# Altium schematic symbol library Power_Management.SchLib: 280 symbols (part 1 of 3)
Pins are listed as number, name and electrical type; pins without a type are passive.

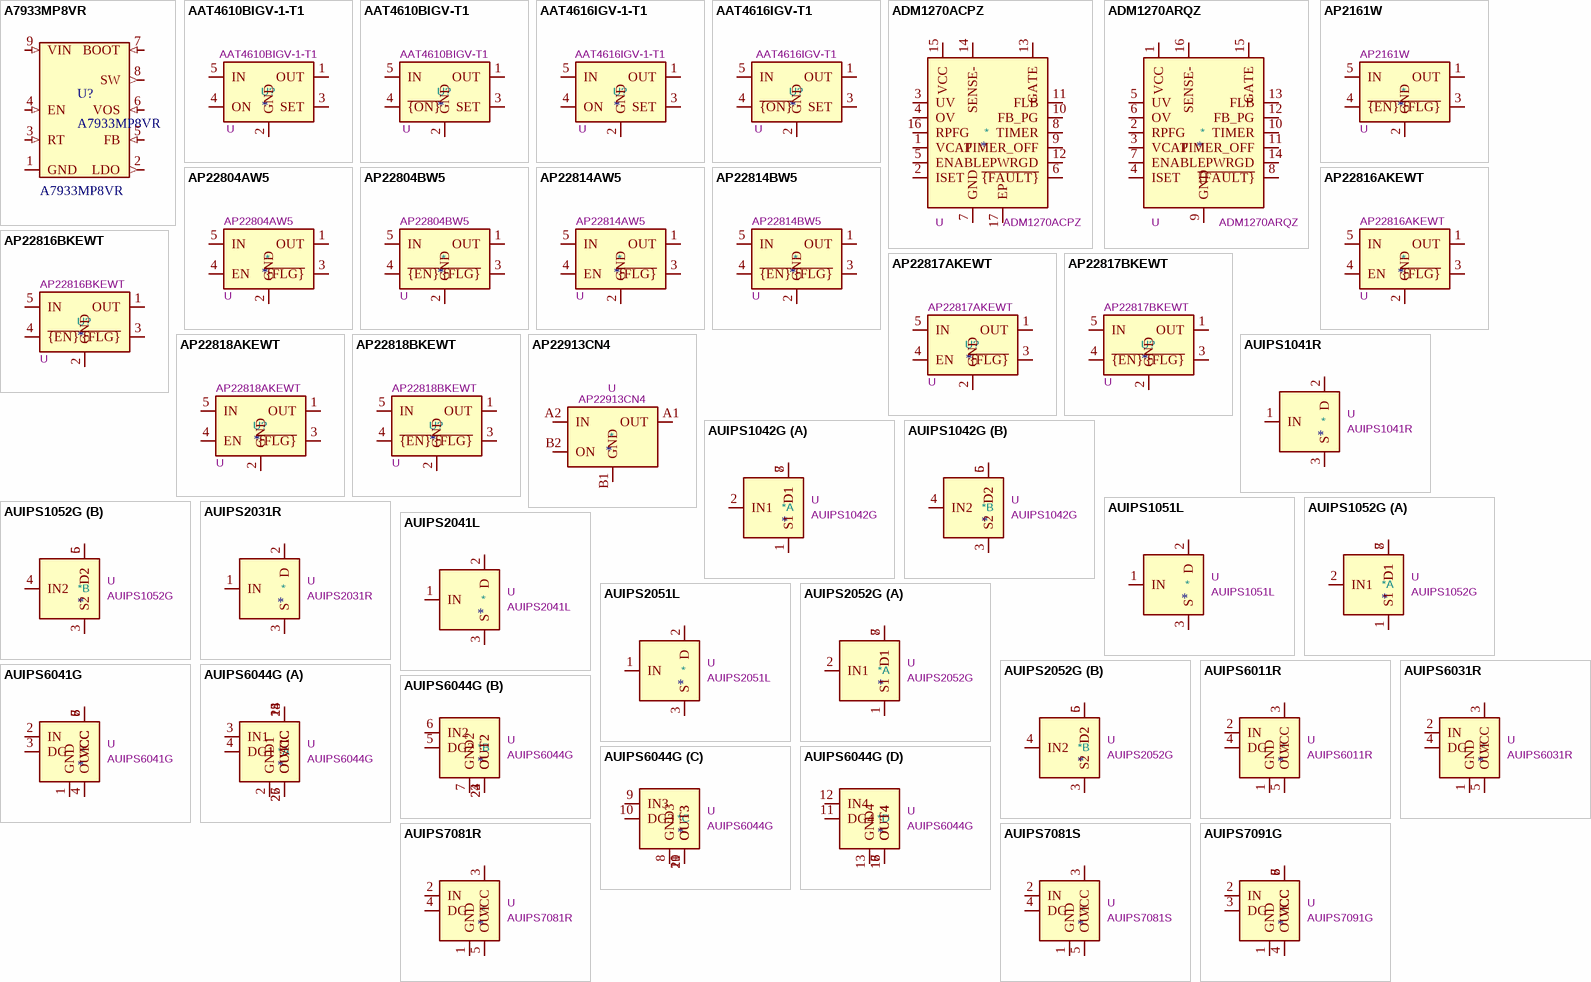
[diagram p0: symbols A7933MP8VR to AUIPS7091G]

## A7933MP8VR
designator U?
DC-DC CONVERTER BUCK (STEP-DOWN) / 6.0V to 90V, 3A, 500KHz; DNP: *; Value: A7933MP8VR
footprint SOIC-8-1EP_3.9x4.9mm_P1.27mm_EP2.62x3.51mm
pins: 1 GND (power), 2 LDO (out), 3 RT (in), 4 EN (in), 5 FB (in), 6 VOS (in), 7 BOOT (in), 8 SW (out), 9 VIN (in)

## AAT4610BIGV-1-T1
designator U?  value AAT4610BIGV-1-T1  Reference: U
Current Limited Load Switch, SOT-23-5; ki_keywords: Limit USB Active High; ki_fp_filters: SOT?23*; Footprint: Package_TO_SOT_SMD:SOT-23-5; Datasheet: http://www.skyworksinc.com/uploads/documents/201937A.pdf; Description_: Current Limited Load Switch, SOT-23-5
pins: 1 OUT, 2 GND, 3 SET, 4 ON, 5 IN

## AAT4610BIGV-T1
designator U?  value AAT4610BIGV-T1  Reference: U
Current Limited Load Switch, SOT-23-5; ki_keywords: Limit USB Active Low; ki_fp_filters: SOT?23*; Footprint: Package_TO_SOT_SMD:SOT-23-5; Datasheet: http://www.skyworksinc.com/uploads/documents/201937A.pdf; Description_: Current Limited Load Switch, SOT-23-5
pins: 1 OUT, 2 GND, 3 SET, 4 ~{{ON}}, 5 IN

## AAT4616IGV-1-T1
designator U?  value AAT4616IGV-1-T1  Reference: U
Adjustable Current Limited Load Switch, SOT-23-5; ki_keywords: Limit USB Active High; ki_fp_filters: SOT?23*; Footprint: Package_TO_SOT_SMD:SOT-23-5; Datasheet: http://www.skyworksinc.com/uploads/documents/AAT4616_201940E.pdf; Description_: Adjustable Current Limited Load Switch, SOT-23-5
pins: 1 OUT, 2 GND, 3 SET, 4 ON, 5 IN

## AAT4616IGV-T1
designator U?  value AAT4616IGV-T1  Reference: U
Adjustable Current Limited Load Switch, SOT-23-5; ki_keywords: Limit USB Active Low; ki_fp_filters: SOT?23*; Footprint: Package_TO_SOT_SMD:SOT-23-5; Datasheet: http://www.skyworksinc.com/uploads/documents/AAT4616_201940E.pdf; Description_: Adjustable Current Limited Load Switch, SOT-23-5
pins: 1 OUT, 2 GND, 3 SET, 4 ~{{ON}}, 5 IN

## ADM1270ACPZ
designator *  value ADM1270ACPZ  Reference: U
High Voltage Input Protection Device; ki_keywords: high-voltage mosfet-driver hot-swap; ki_fp_filters: *LFCSP*3x3mm*P0.5mm*; Footprint: Package_CSP:LFCSP-16-1EP_3x3mm_P0.5mm_EP1.5x1.5mm; Datasheet: https://www.analog.com/media/en/technical-documentation/data-sheets/ADM1270.pdf; Description_: High Voltage Input Protection Device
pins: 1 VCAP, 2 ISET, 3 UV, 4 OV, 5 ENABLE, 6 ~{{FAULT}}, 7 GND, 8 TIMER, 9 TIMER_OFF, 10 FB_PG, 11 FLB, 12 PWRGD, 13 GATE, 14 SENSE-, 15 VCC, 16 RPFG, 17 EP

## ADM1270ARQZ
designator *  value ADM1270ARQZ  Reference: U
High Voltage Input Protection Device; ki_keywords: high-voltage mosfet-driver hot-swap; ki_fp_filters: *QSOP*3.9x4.9mm*P0.635mm*; Footprint: Package_SO:QSOP-16_3.9x4.9mm_P0.635mm; Datasheet: https://www.analog.com/media/en/technical-documentation/data-sheets/ADM1270.pdf; Description_: High Voltage Input Protection Device
pins: 1 VCC, 2 RPFG, 3 VCAP, 4 ISET, 5 UV, 6 OV, 7 ENABLE, 8 ~{{FAULT}}, 9 GND, 10 TIMER, 11 TIMER_OFF, 12 FB_PG, 13 FLB, 14 PWRGD, 15 GATE, 16 SENSE-

## AP2161W
designator *  value AP2161W  Reference: U
Current limited power switch, single channel, SOT-23-5; ki_keywords: Limit USB Active Low; ki_fp_filters: SOT?23*; Footprint: Package_TO_SOT_SMD:SOT-23-5; Datasheet: https://www.diodes.com/assets/Datasheets/AP2161.pdf; Description_: Current limited power switch, single channel, SOT-23-5
pins: 1 OUT, 2 GND, 3 ~{{FLG}}, 4 ~{{EN}}, 5 IN

## AP22804AW5
designator *  value AP22804AW5  Reference: U
Current limited 2.5A power switch, single channel, SOT-23-5; ki_keywords: Limit USB Active High; ki_fp_filters: SOT?23*; Footprint: Package_TO_SOT_SMD:SOT-23-5; Datasheet: https://www.diodes.com/assets/Datasheets/AP22804_14.pdf; Description_: Current limited 2.5A power switch, single channel, SOT-23-5
pins: 1 OUT, 2 GND, 3 ~{{FLG}}, 4 EN, 5 IN

## AP22804BW5
designator *  value AP22804BW5  Reference: U
Current limited 2.5A power switch, single channel, SOT-23-5; ki_keywords: Limit USB Active Low; ki_fp_filters: SOT?23*; Footprint: Package_TO_SOT_SMD:SOT-23-5; Datasheet: https://www.diodes.com/assets/Datasheets/AP22804_14.pdf; Description_: Current limited 2.5A power switch, single channel, SOT-23-5
pins: 1 OUT, 2 GND, 3 ~{{FLG}}, 4 ~{{EN}}, 5 IN

## AP22814AW5
designator *  value AP22814AW5  Reference: U
Current limited 3A power switch, single channel, SOT-23-5; ki_keywords: Limit USB Active High; ki_fp_filters: SOT?23*; Footprint: Package_TO_SOT_SMD:SOT-23-5; Datasheet: https://www.diodes.com/assets/Datasheets/AP22804_14.pdf; Description_: Current limited 3A power switch, single channel, SOT-23-5
pins: 1 OUT, 2 GND, 3 ~{{FLG}}, 4 EN, 5 IN

## AP22814BW5
designator *  value AP22814BW5  Reference: U
Current limited 3A power switch, single channel, SOT-23-5; ki_keywords: Limit USB Active Low; ki_fp_filters: SOT?23*; Footprint: Package_TO_SOT_SMD:SOT-23-5; Datasheet: https://www.diodes.com/assets/Datasheets/AP22804_14.pdf; Description_: Current limited 3A power switch, single channel, SOT-23-5
pins: 1 OUT, 2 GND, 3 ~{{FLG}}, 4 ~{{EN}}, 5 IN

## AP22816AKEWT
designator *  value AP22816AKEWT  Reference: U
Current limited 1A power switch, single channel, SOT-23-5; ki_keywords: Limit USB Active High; ki_fp_filters: SOT?23*; Footprint: Package_TO_SOT_SMD:SOT-23-5; Datasheet: https://www.diodes.com/assets/Datasheets/AP22816_17_18.pdf; Description_: Current limited 1A power switch, single channel, SOT-23-5
pins: 1 OUT, 2 GND, 3 ~{{FLG}}, 4 EN, 5 IN

## AP22816BKEWT
designator U?  value AP22816BKEWT  Reference: U
Current limited 1A power switch, single channel, SOT-23-5; ki_keywords: Limit USB Active Low; ki_fp_filters: SOT?23*; Footprint: Package_TO_SOT_SMD:SOT-23-5; Datasheet: https://www.diodes.com/assets/Datasheets/AP22816_17_18.pdf; Description_: Current limited 1A power switch, single channel, SOT-23-5
pins: 1 OUT, 2 GND, 3 ~{{FLG}}, 4 ~{{EN}}, 5 IN

## AP22817AKEWT
designator U?  value AP22817AKEWT  Reference: U
Current limited 1.5A power switch, single channel, SOT-23-5; ki_keywords: Limit USB Active High; ki_fp_filters: SOT?23*; Footprint: Package_TO_SOT_SMD:SOT-23-5; Datasheet: https://www.diodes.com/assets/Datasheets/AP22816_17_18.pdf; Description_: Current limited 1.5A power switch, single channel, SOT-23-5
pins: 1 OUT, 2 GND, 3 ~{{FLG}}, 4 EN, 5 IN

## AP22817BKEWT
designator U?  value AP22817BKEWT  Reference: U
Current limited 1.5A power switch, single channel, SOT-23-5; ki_keywords: Limit USB Active Low; ki_fp_filters: SOT?23*; Footprint: Package_TO_SOT_SMD:SOT-23-5; Datasheet: https://www.diodes.com/assets/Datasheets/AP22816_17_18.pdf; Description_: Current limited 1.5A power switch, single channel, SOT-23-5
pins: 1 OUT, 2 GND, 3 ~{{FLG}}, 4 ~{{EN}}, 5 IN

## AP22818AKEWT
designator U?  value AP22818AKEWT  Reference: U
Current limited 2.0A power switch, single channel, SOT-23-5; ki_keywords: Limit USB Active High; ki_fp_filters: SOT?23*; Footprint: Package_TO_SOT_SMD:SOT-23-5; Datasheet: https://www.diodes.com/assets/Datasheets/AP22816_17_18.pdf; Description_: Current limited 2.0A power switch, single channel, SOT-23-5
pins: 1 OUT, 2 GND, 3 ~{{FLG}}, 4 EN, 5 IN

## AP22818BKEWT
designator U?  value AP22818BKEWT  Reference: U
Current limited 2A power switch, single channel, SOT-23-5; ki_keywords: Limit USB Active Low; ki_fp_filters: SOT?23*; Footprint: Package_TO_SOT_SMD:SOT-23-5; Datasheet: https://www.diodes.com/assets/Datasheets/AP22816_17_18.pdf; Description_: Current limited 2A power switch, single channel, SOT-23-5
pins: 1 OUT, 2 GND, 3 ~{{FLG}}, 4 ~{{EN}}, 5 IN

## AP22913CN4
designator *  value AP22913CN4  Reference: U
Slew rate controlled load switch, WLCSP-4; ki_keywords: Lead control switch slew rate; ki_fp_filters: WLCSP*0.89x0.89mm*Layout2x2*P0.5mm*; Footprint: Package_CSP:WLCSP-4_0.89x0.89mm_Layout2x2_P0.5mm; Datasheet: https://www.diodes.com/assets/Datasheets/AP22913.pdf; Description_: Slew rate controlled load switch, WLCSP-4
pins: A1 OUT, A2 IN, B1 GND, B2 ON

## AUIPS1041R
designator *  value AUIPS1041R  Reference: U
Intelligent Power Low Side Switch, 39V, 4.5A, DPAK-5L; ki_fp_filters: TO?252*; Footprint: Package_TO_SOT_SMD:TO-252-3_TabPin2; Datasheet: https://www.infineon.com/dgdl/Infineon-AUIPS1041-DS-v01_00-EN.pdf?fileId=5546d4625a888733015aae14a0524c63; Description_: Intelligent Power Low Side Switch, 39V, 4.5A, DPAK-5L; ki_keywords: low side switch
pins: 1 IN, 2 D, 3 S

## AUIPS1042G
designator *  value AUIPS1042G  Reference: U
Dual Channel Intelligent Power Low Side Switch, 39V, 4.5A, SOIC-8; ki_keywords: dual low side switch; ki_fp_filters: SOIC*3.9x4.9mm*P1.27mm*; Footprint: Package_SO:SOIC-8_3.9x4.9mm_P1.27mm; Datasheet: https://www.infineon.com/dgdl/Infineon-AUIPS1041-DS-v01_00-EN.pdf?fileId=5546d4625a888733015aae14a0524c63; Description_: Dual Channel Intelligent Power Low Side Switch, 39V, 4.5A, SOIC-8
part A pins: 1 S1, 2 IN1, 7 D1, 8 D1
part B pins: 3 S2, 4 IN2, 5 D2, 6 D2

## AUIPS1051L
designator *  value AUIPS1051L  Reference: U
Intelligent Power Low Side Switch, 39V, 2.8A, SOT-223; ki_fp_filters: SOT?223*; Footprint: Package_TO_SOT_SMD:SOT-223-3_TabPin2; Datasheet: https://www.infineon.com/dgdl/auips1051.pdf?fileId=5546d462533600a4015355a4710712fc; Description_: Intelligent Power Low Side Switch, 39V, 2.8A, SOT-223; ki_keywords: low side switch
pins: 1 IN, 2 D, 3 S

## AUIPS1052G
designator *  value AUIPS1052G  Reference: U
Dual Channel Intelligent Power Low Side Switch, 39V, 2.8A, SOIC-8; ki_keywords: dual low side switch; ki_fp_filters: SOIC*3.9x4.9mm*P1.27mm*; Footprint: Package_SO:SOIC-8_3.9x4.9mm_P1.27mm; Datasheet: https://www.infineon.com/dgdl/auips1051.pdf?fileId=5546d462533600a4015355a4710712fc; Description_: Dual Channel Intelligent Power Low Side Switch, 39V, 2.8A, SOIC-8
part A pins: 1 S1, 2 IN1, 7 D1, 8 D1
part B pins: 3 S2, 4 IN2, 5 D2, 6 D2

## AUIPS2031R
designator *  value AUIPS2031R  Reference: U
Intelligent Power Low Side Switch, 68V, 10A, DPAK-5L; ki_fp_filters: TO?252*; Footprint: Package_TO_SOT_SMD:TO-252-3_TabPin2; Datasheet: https://www.infineon.com/dgdl/Infineon-AUIPS2031R-DS-v01_00-EN.pdf?fileId=5546d4625a888733015aae1488334c5c; Description_: Intelligent Power Low Side Switch, 68V, 10A, DPAK-5L; ki_keywords: low side switch
pins: 1 IN, 2 D, 3 S

## AUIPS2041L
designator *  value AUIPS2041L  Reference: U
Intelligent Power Low Side Switch, 68V, 5A, SOT-223; ki_fp_filters: SOT?223*; Footprint: Package_TO_SOT_SMD:SOT-223-3_TabPin2; Datasheet: https://www.infineon.com/dgdl/Infineon-AUIPS2041-DS-v01_00-EN.pdf?fileId=5546d4625a888733015aae147a9d4c57; Description_: Intelligent Power Low Side Switch, 68V, 5A, SOT-223; ki_keywords: low side switch
pins: 1 IN, 2 D, 3 S

## AUIPS2051L
designator *  value AUIPS2051L  Reference: U
Intelligent Power Low Side Switch, 70V, 1.8A, SOT-223; ki_fp_filters: SOT?223*; Footprint: Package_TO_SOT_SMD:SOT-223-3_TabPin2; Datasheet: https://www.infineon.com/dgdl/Infineon-AUIPS2052G-DS-v01_00-EN.pdf?fileId=5546d4625a888733015aae0b6fb04c51; Description_: Intelligent Power Low Side Switch, 70V, 1.8A, SOT-223; ki_keywords: low side switch
pins: 1 IN, 2 D, 3 S

## AUIPS2052G
designator *  value AUIPS2052G  Reference: U
Dual Channel Intelligent Power Low Side Switch, 70V, 1.8A, SOIC-8; ki_keywords: dual low side switch; ki_fp_filters: SOIC*3.9x4.9mm*P1.27mm*; Footprint: Package_SO:SOIC-8_3.9x4.9mm_P1.27mm; Datasheet: https://www.infineon.com/dgdl/Infineon-AUIPS2052G-DS-v01_00-EN.pdf?fileId=5546d4625a888733015aae0b6fb04c51; Description_: Dual Channel Intelligent Power Low Side Switch, 70V, 1.8A, SOIC-8
part A pins: 1 S1, 2 IN1, 7 D1, 8 D1
part B pins: 3 S2, 4 IN2, 5 D2, 6 D2

## AUIPS6011R
designator *  value AUIPS6011R  Reference: U
Intelligent Power High Side Switch, 39V, 60A, DPAK-5L; ki_fp_filters: TO?252*; Footprint: Package_TO_SOT_SMD:TO-252-4; Datasheet: https://www.infineon.com/dgdl/auips6011.pdf?fileId=5546d462533600a4015355a787bf1309; Description_: Intelligent Power High Side Switch, 39V, 60A, DPAK-5L; ki_keywords: high side switch
pins: 1 GND, 2 IN, 3 VCC, 4 DG, 5 OUT

## AUIPS6031R
designator *  value AUIPS6031R  Reference: U
Intelligent Power High Side Switch, 39V, 16A, DPAK-5L; ki_fp_filters: TO?252*; Footprint: Package_TO_SOT_SMD:TO-252-4; Datasheet: https://www.infineon.com/dgdl/auips6031.pdf?fileId=5546d462533600a4015355a797f51311; Description_: Intelligent Power High Side Switch, 39V, 16A, DPAK-5L; ki_keywords: high side switch
pins: 1 GND, 2 IN, 3 VCC, 4 DG, 5 OUT

## AUIPS6041G
designator *  value AUIPS6041G  Reference: U
Intelligent Power High Side Switch, 39V, 7A, SOIC-8; ki_fp_filters: SOIC*3.9x4.9mm*P1.27mm*; Footprint: Package_SO:SOIC-8_3.9x4.9mm_P1.27mm; Datasheet: https://www.infineon.com/dgdl/auips6041.pdf?fileId=5546d462533600a4015355a7a0251315; Description_: Intelligent Power High Side Switch, 39V, 7A, SOIC-8; ki_keywords: high side switch
pins: 1 GND, 2 IN, 3 DG, 4 OUT, 5 VCC, 6 VCC, 7 VCC, 8 VCC

## AUIPS6044G
designator *  value AUIPS6044G  Reference: U
Intelligent Power High Side Switch, 39V, 7A, SOIC-28W; ki_fp_filters: SOIC*3.9x4.9mm*P1.27mm*; Footprint: Package_SO:SOIC-8_3.9x4.9mm_P1.27mm; Datasheet: https://www.infineon.com/dgdl/auips6044g.pdf?fileId=5546d462533600a4015355a7a8e4131a; Description_: Intelligent Power High Side Switch, 39V, 7A, SOIC-28W; ki_keywords: high side switch
part A pins: 1 VCC, 2 GND1, 3 IN1, 4 DG1, 14 VCC, 15 VCC, 25 OUT1, 26 OUT1, 27 OUT1, 28 VCC
part B pins: 5 DG2, 6 IN2, 7 GND2, 22 OUT2, 23 OUT2, 24 OUT2
part C pins: 8 GND3, 9 IN3, 10 DG3, 19 OUT3, 20 OUT3, 21 OUT3
part D pins: 11 DG4, 12 IN4, 13 GND4, 16 OUT4, 17 OUT4, 18 OUT4

## AUIPS7081R
designator *  value AUIPS7081R  Reference: U
Intelligent Power High Side Switch, 70V, 5A, DPAK-5L; ki_fp_filters: TO?252*; Footprint: Package_TO_SOT_SMD:TO-252-4; Datasheet: https://www.infineon.com/dgdl/auips7081.pdf?fileId=5546d462533600a4015355a7b8d5131e; Description_: Intelligent Power High Side Switch, 70V, 5A, DPAK-5L; ki_keywords: high side switch
pins: 1 GND, 2 IN, 3 VCC, 4 DG, 5 OUT

## AUIPS7081S
designator *  value AUIPS7081S  Reference: U
Intelligent Power High Side Switch, 70V, 5A, D2PAK-5L; ki_fp_filters: TO?263*; Footprint: Package_TO_SOT_SMD:TO-263-4; Datasheet: https://www.infineon.com/dgdl/auips7081.pdf?fileId=5546d462533600a4015355a7b8d5131e; Description_: Intelligent Power High Side Switch, 70V, 5A, D2PAK-5L; ki_keywords: high side switch
pins: 1 GND, 2 IN, 3 VCC, 4 DG, 5 OUT

## AUIPS7091G
designator *  value AUIPS7091G  Reference: U
Intelligent Power High Side Switch, 70V, 5A, SOIC-8; ki_fp_filters: SOIC*3.9x4.9mm*P1.27mm*; Footprint: Package_SO:SOIC-8_3.9x4.9mm_P1.27mm; Datasheet: https://www.infineon.com/dgdl/auips7091.pdf?fileId=5546d462533600a4015355a7c0d21322; Description_: Intelligent Power High Side Switch, 70V, 5A, SOIC-8; ki_keywords: high side switch
pins: 1 GND, 2 IN, 3 DG, 4 OUT, 5 VCC, 6 VCC, 7 VCC, 8 VCC

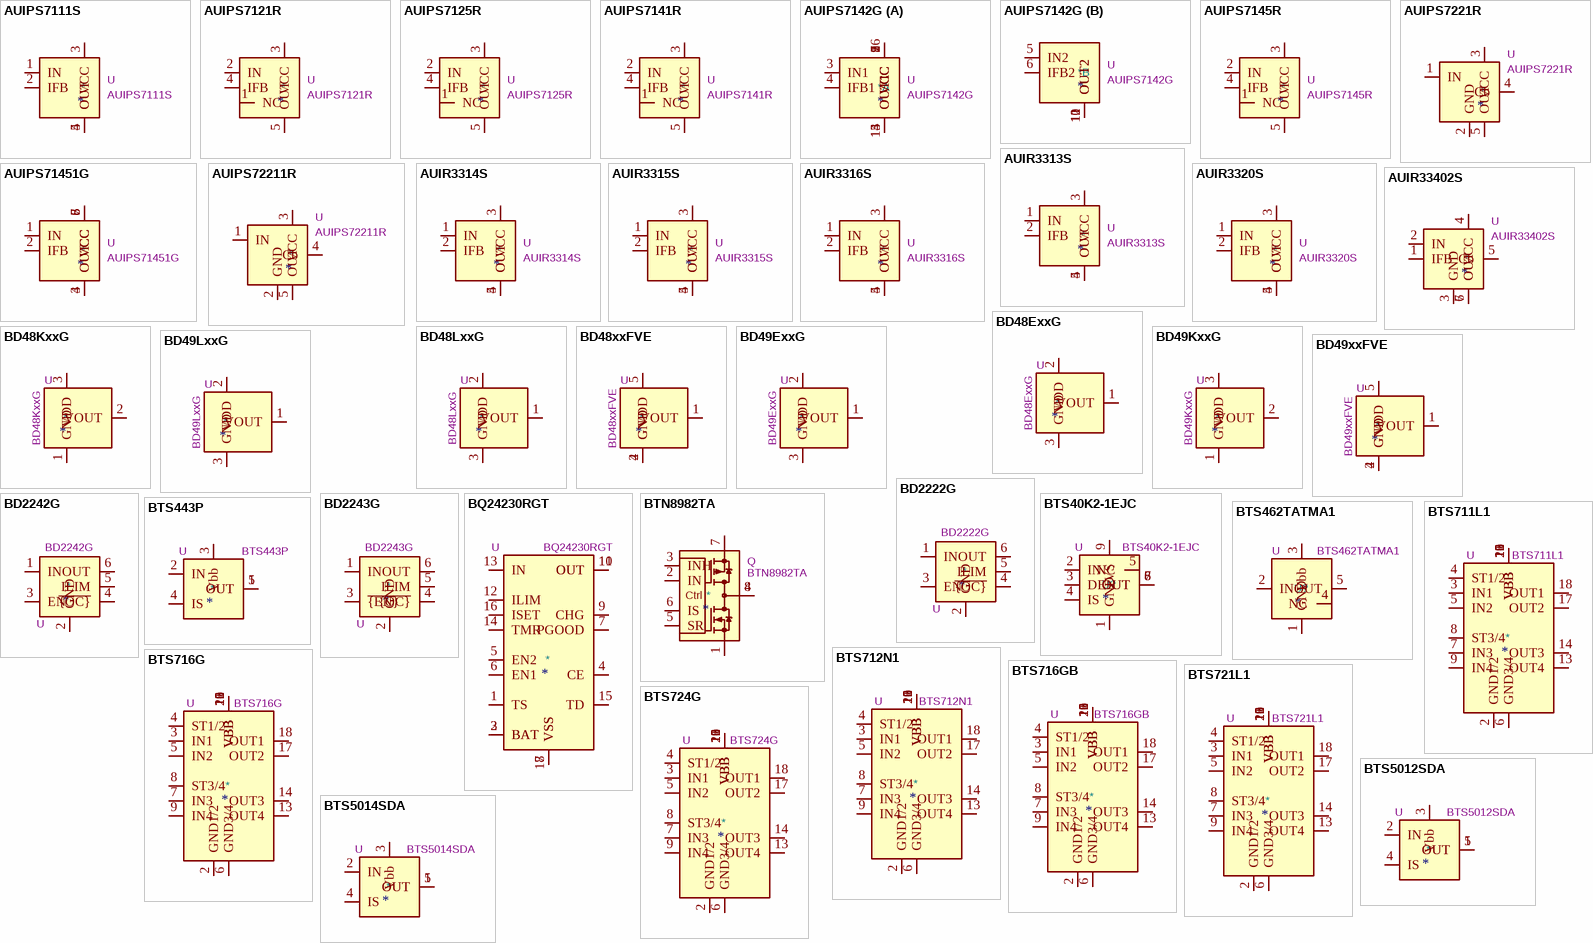
[diagram p1: symbols AUIPS7111S to BTS5014SDA]

## AUIPS7111S
designator *  value AUIPS7111S  Reference: U
Current Sense High Side Switch, 65V, 30A, D2PAK-5L; ki_fp_filters: TO?263*; Footprint: Package_TO_SOT_SMD:TO-263-4; Datasheet: https://www.infineon.com/dgdl/auips7111s.pdf?fileId=5546d462533600a4015355a7c94e1326; Description_: Current Sense High Side Switch, 65V, 30A, D2PAK-5L; ki_keywords: high side switch
pins: 1 IN, 2 IFB, 3 VCC, 4 OUT, 5 OUT

## AUIPS7121R
designator *  value AUIPS7121R  Reference: U
Current Sense High Side Switch, 65V, 50A, DPAK-5L; ki_fp_filters: TO?252*; Footprint: Package_TO_SOT_SMD:TO-252-4; Datasheet: http://www.infineon.com/dgdl/auips7121.pdf?fileId=5546d462533600a4015355a7d1721328; Description_: Current Sense High Side Switch, 65V, 50A, DPAK-5L; ki_keywords: high side switch
pins: 1 NC, 2 IN, 3 VCC, 4 IFB, 5 OUT

## AUIPS7125R
designator *  value AUIPS7125R  Reference: U
Current Sense High Side Switch, 65V, 50A, DPAK-5L; ki_fp_filters: TO?252*; Footprint: Package_TO_SOT_SMD:TO-252-4; Datasheet: https://www.infineon.com/dgdl/auips7125.pdf?fileId=5546d462533600a4015355a7d96a132a; Description_: Current Sense High Side Switch, 65V, 50A, DPAK-5L; ki_keywords: high side switch
pins: 1 NC, 2 IN, 3 VCC, 4 IFB, 5 OUT

## AUIPS7141R
designator *  value AUIPS7141R  Reference: U
Current Sense High Side Switch, 65V, 20A, DPAK-5L; ki_fp_filters: TO?252*; Footprint: Package_TO_SOT_SMD:TO-252-4; Datasheet: https://www.infineon.com/dgdl/auips7141.pdf?fileId=5546d462533600a4015355a7e126132c; Description_: Current Sense High Side Switch, 65V, 20A, DPAK-5L; ki_keywords: high side switch
pins: 1 NC, 2 IN, 3 VCC, 4 IFB, 5 OUT

## AUIPS7142G
designator *  value AUIPS7142G  Reference: U
Dual Channels Current Sense High Side Switch, 65V, 20A, SOIC-16W; ki_keywords: dual high side switch; ki_fp_filters: SOIC*W*7.5x10.3mm*P1.27mm*; Footprint: Package_SO:SOIC-16W_7.5x10.3mm_P1.27mm; Datasheet: https://www.infineon.com/dgdl/auips7142g.pdf?fileId=5546d462533600a4015355a7ef451330; Description_: Dual Channels Current Sense High Side Switch, 65V, 20A, SOIC-16W
part A pins: 1 VCC, 2 VCC, 3 IN1, 4 IFB1, 7 VCC, 8 VCC, 9 VCC, 13 OUT1, 14 OUT1, 15 OUT1, 16 VCC
part B pins: 5 IN2, 6 IFB2, 10 OUT2, 11 OUT2, 12 OUT2

## AUIPS7145R
designator *  value AUIPS7145R  Reference: U
Current Sense High Side Switch, 65V, 20A, DPAK-5L; ki_fp_filters: TO?252*; Footprint: Package_TO_SOT_SMD:TO-252-4; Datasheet: https://www.infineon.com/dgdl/auips7145r.pdf?fileId=5546d462533600a4015355a7ff1a1334; Description_: Current Sense High Side Switch, 65V, 20A, DPAK-5L; ki_keywords: high side switch
pins: 1 NC, 2 IN, 3 VCC, 4 IFB, 5 OUT

## AUIPS7221R
designator *  value AUIPS7221R  Reference: U
PWM Intelligent Power High Side Switch, 75V, 25A, DPAK-5L; ki_fp_filters: TO?252*; Footprint: Package_TO_SOT_SMD:TO-252-4; Datasheet: https://www.infineon.com/dgdl/auips7221r.pdf?fileId=5546d462533600a4015355a80e761338; Description_: PWM Intelligent Power High Side Switch, 75V, 25A, DPAK-5L; ki_keywords: high side switch
pins: 1 IN, 2 GND, 3 VCC, 4 Cb, 5 OUT

## AUIPS71451G
designator *  value AUIPS71451G  Reference: U
Current Sense High Side Switch, 65V, 4A, SOIC-8; ki_fp_filters: SOIC*3.9x4.9mm*P1.27mm*; Footprint: Package_SO:SOIC-8_3.9x4.9mm_P1.27mm; Datasheet: https://www.infineon.com/dgdl/auips71451g.pdf?fileId=5546d462533600a4015355a7f7461332; Description_: Current Sense High Side Switch, 65V, 4A, SOIC-8; ki_keywords: high side switch
pins: 1 IN, 2 IFB, 3 OUT, 4 OUT, 5 VCC, 6 VCC, 7 VCC, 8 VCC

## AUIPS72211R
designator *  value AUIPS72211R  Reference: U
Low EMI PWM Intelligent Power High Side Switch, 75V, 20A, DPAK-5L; ki_fp_filters: TO?252*; Footprint: Package_TO_SOT_SMD:TO-252-4; Datasheet: https://www.infineon.com/dgdl/Infineon-AUIPS72211R-DS-v01_10-EN.pdf?fileId=5546d4625a888733015aad6673cb4beb; Description_: Low EMI PWM Intelligent Power High Side Switch, 75V, 20A, DPAK-5L; ki_keywords: high side switch
pins: 1 IN, 2 GND, 3 VCC, 4 Cb, 5 OUT

## AUIR3313S
designator *  value AUIR3313S  Reference: U
Programmable Current Sense High Side Switch, 32V, 90A, D2PAK-5L; ki_fp_filters: TO?263*; Footprint: Package_TO_SOT_SMD:TO-263-4; Datasheet: https://www.infineon.com/dgdl/auir3313.pdf?fileId=5546d462533600a4015355a83e2d1347; Description_: Programmable Current Sense High Side Switch, 32V, 90A, D2PAK-5L; ki_keywords: high side switch
pins: 1 IN, 2 IFB, 3 VCC, 4 OUT, 5 OUT

## AUIR3314S
designator *  value AUIR3314S  Reference: U
Programmable Current Sense High Side Switch, 32V, 58A, D2PAK-5L; ki_fp_filters: TO?263*; Footprint: Package_TO_SOT_SMD:TO-263-4; Datasheet: https://www.infineon.com/dgdl/auir3314.pdf?fileId=5546d462533600a4015355a846b8134a; Description_: Programmable Current Sense High Side Switch, 32V, 58A, D2PAK-5L; ki_keywords: high side switch
pins: 1 IN, 2 IFB, 3 VCC, 4 OUT, 5 OUT

## AUIR3315S
designator *  value AUIR3315S  Reference: U
Programmable Current Sense High Side Switch, 32V, 30A, D2PAK-5L; ki_fp_filters: TO?263*; Footprint: Package_TO_SOT_SMD:TO-263-4; Datasheet: https://www.infineon.com/dgdl/auir3315.pdf?fileId=5546d462533600a4015355a84eda134d; Description_: Programmable Current Sense High Side Switch, 32V, 30A, D2PAK-5L; ki_keywords: high side switch
pins: 1 IN, 2 IFB, 3 VCC, 4 OUT, 5 OUT

## AUIR3316S
designator *  value AUIR3316S  Reference: U
Low EMI Current Sense High Side Switch, 26V, 90A, D2PAK-5L; ki_fp_filters: TO?263*; Footprint: Package_TO_SOT_SMD:TO-263-4; Datasheet: https://www.infineon.com/dgdl/auir3316.pdf?fileId=5546d462533600a4015355a856f41350; Description_: Low EMI Current Sense High Side Switch, 26V, 90A, D2PAK-5L; ki_keywords: high side switch
pins: 1 IN, 2 IFB, 3 VCC, 4 OUT, 5 OUT

## AUIR3320S
designator *  value AUIR3320S  Reference: U
Low EMI Current Sense High Side Switch, 26V, 55A, D2PAK-5L; ki_fp_filters: TO?263*; Footprint: Package_TO_SOT_SMD:TO-263-4; Datasheet: https://www.infineon.com/dgdl/auir3320s.pdf?fileId=5546d462533600a4015355a867d01356; Description_: Low EMI Current Sense High Side Switch, 26V, 55A, D2PAK-5L; ki_keywords: high side switch
pins: 1 IN, 2 IFB, 3 VCC, 4 OUT, 5 OUT

## AUIR33402S
designator *  value AUIR33402S  Reference: U
Protected High Side Switch, 18V, 33A, D2PAK-7L; ki_fp_filters: TO?263*TabPin4*; Footprint: Package_TO_SOT_SMD:TO-263-7_TabPin4; Datasheet: https://www.infineon.com/dgdl/auir33402s.pdf?fileId=5546d462533600a4015355a88074135c; Description_: Protected High Side Switch, 18V, 33A, D2PAK-7L; ki_keywords: high side switch
pins: 1 IFB, 2 IN, 3 GND, 4 VCC, 5 Cb, 6 OUT, 7 OUT

## BD48ExxG
designator *  value BD48ExxG  Reference: U
Standard CMOS Voltage Detector IC, Open Drain Output, SSOP5; ki_keywords: voltage detector open drain SSOP5; ki_fp_filters: *SOT-23*5*; Footprint: Package_TO_SOT_SMD:SOT-23-5; Datasheet: https://www.rohm.de/datasheet/BD4830FVE/bd48xxg-e; Description_: Standard CMOS Voltage Detector IC, Open Drain Output, SSOP5
pins: 1 VOUT, 2 VDD, 3 GND

## BD48KxxG
designator *  value BD48KxxG  Reference: U
Standard CMOS Voltage Detector IC, Open Drain Output, SSOP3(1pin GND); ki_keywords: voltage detector open drain SSOP3; ki_fp_filters: *SOT-23*; Footprint: Package_TO_SOT_SMD:SOT-23; Datasheet: https://www.rohm.de/datasheet/BD4830FVE/bd48xxg-e; Description_: Standard CMOS Voltage Detector IC, Open Drain Output, SSOP3(1pin GND)
pins: 1 GND, 2 VOUT, 3 VDD

## BD48LxxG
designator *  value BD48LxxG  Reference: U
Standard CMOS Voltage Detector IC, Open Drain Output, SSOP3(3pin GND); ki_keywords: voltage detector open drain SSOP3; ki_fp_filters: *SOT-23*; Footprint: Package_TO_SOT_SMD:SOT-23; Datasheet: https://www.rohm.de/datasheet/BD4830FVE/bd48xxg-e; Description_: Standard CMOS Voltage Detector IC, Open Drain Output, SSOP3(3pin GND)
pins: 1 VOUT, 2 VDD, 3 GND

## BD48xxFVE
designator *  value BD48xxFVE  Reference: U
Standard CMOS Voltage Detector IC, Open Drain Output, VSOF5; ki_keywords: voltage detector open drain VSOF5; ki_fp_filters: *VSOF*5*; Footprint: Package_TO_SOT_SMD:VSOF5; Datasheet: https://www.rohm.de/datasheet/BD4830FVE/bd48xxg-e; Description_: Standard CMOS Voltage Detector IC, Open Drain Output, VSOF5
pins: 1 VOUT, 2 GND, 4 GND, 5 VDD

## BD49ExxG
designator *  value BD49ExxG  Reference: U
Standard CMOS Voltage Detector IC, CMOS Output, SSOP5; ki_keywords: voltage detector cmos SSOP5; ki_fp_filters: *SOT-23*5*; Footprint: Package_TO_SOT_SMD:SOT-23-5; Datasheet: https://www.rohm.de/datasheet/BD4830FVE/bd48xxg-e; Description_: Standard CMOS Voltage Detector IC, CMOS Output, SSOP5
pins: 1 VOUT, 2 VDD, 3 GND

## BD49KxxG
designator *  value BD49KxxG  Reference: U
Standard CMOS Voltage Detector IC, CMOS Output, SSOP3(1pin GND); ki_keywords: voltage detector cmos SSOP3; ki_fp_filters: *SOT-23*; Footprint: Package_TO_SOT_SMD:SOT-23; Datasheet: https://www.rohm.de/datasheet/BD4830FVE/bd48xxg-e; Description_: Standard CMOS Voltage Detector IC, CMOS Output, SSOP3(1pin GND)
pins: 1 GND, 2 VOUT, 3 VDD

## BD49LxxG
designator *  value BD49LxxG  Reference: U
Standard CMOS Voltage Detector IC, CMOS Output, SSOP3(3pin GND); ki_keywords: voltage detector cmos SSOP3; ki_fp_filters: *SOT-23*; Footprint: Package_TO_SOT_SMD:SOT-23; Datasheet: https://www.rohm.de/datasheet/BD4830FVE/bd48xxg-e; Description_: Standard CMOS Voltage Detector IC, CMOS Output, SSOP3(3pin GND)
pins: 1 VOUT, 2 VDD, 3 GND

## BD49xxFVE
designator *  value BD49xxFVE  Reference: U
Standard CMOS Voltage Detector IC, CMOS Output, VSOF5; ki_keywords: voltage detector cmos VSOF5; ki_fp_filters: *VSOF*5*; Footprint: Package_TO_SOT_SMD:VSOF5; Datasheet: https://www.rohm.de/datasheet/BD4830FVE/bd48xxg-e; Description_: Standard CMOS Voltage Detector IC, CMOS Output, VSOF5
pins: 1 VOUT, 2 GND, 4 GND, 5 VDD

## BD2222G
designator *  value BD2222G  Reference: U
Adjustable current limit high side switch IC, active-high enable, 2.8..5.5V, 0.2..1.7A, 89mOhm Ron, TSOP-6; ki_keywords: USB power-distribution ROHM; ki_fp_filters: TSOP*6*1.65x3.05mm*P0.95mm*; Footprint: Package_SO:TSOP-6_1.65x3.05mm_P0.95mm; Datasheet: https://fscdn.rohm.com/en/products/databook/datasheet/ic/power/power_switch/bd2242g-e.pdf; Description_: Adjustable current limit high side switch IC, active-high enable, 2.8..5.5V, 0.2..1.7A, 89mOhm Ron, TSOP-6
pins: 1 IN, 2 GND, 3 EN, 4 ~{{OC}}, 5 ILIM, 6 OUT

## BD2242G
designator *  value BD2242G  Reference: U
Adjustable current limit high side switch IC, 2.8..5.5V, output discharge, active-high enable, 0.2..1.7A, 89mOhm Ron, TSOP-6; ki_keywords: USB power-distribution ROHM; ki_fp_filters: TSOP*6*1.65x3.05mm*P0.95mm*; Footprint: Package_SO:TSOP-6_1.65x3.05mm_P0.95mm; Datasheet: https://fscdn.rohm.com/en/products/databook/datasheet/ic/power/power_switch/bd2242g-e.pdf; Description_: Adjustable current limit high side switch IC, 2.8..5.5V, output discharge, active-high enable, 0.2..1.7A, 89mOhm Ron, TSOP-6
pins: 1 IN, 2 GND, 3 EN, 4 ~{{OC}}, 5 ILIM, 6 OUT

## BD2243G
designator *  value BD2243G  Reference: U
Adjustable current limit high side switch IC, active-low enable, output discharge, 2.8..5.5V, 0.2..1.7A, 89mOhm Ron, TSOP-6; ki_keywords: USB power-distribution ROHM; ki_fp_filters: TSOP*6*1.65x3.05mm*P0.95mm*; Footprint: Package_SO:TSOP-6_1.65x3.05mm_P0.95mm; Datasheet: https://fscdn.rohm.com/en/products/databook/datasheet/ic/power/power_switch/bd2242g-e.pdf; Description_: Adjustable current limit high side switch IC, active-low enable, output discharge, 2.8..5.5V, 0.2..1.7A, 89mOhm Ron, TSOP-6
pins: 1 IN, 2 GND, 3 ~{{EN}}, 4 ~{{OC}}, 5 ILIM, 6 OUT

## BQ24230RGT
designator *  value BQ24230RGT  Reference: U
USB-Friendly Lithium-Ion Battery Charger And Power-Path Management IC, VQFN-16; ki_fp_filters: VQFN*1EP*3x3mm*P0.5mm*; Footprint: Package_DFN_QFN:VQFN-16-1EP_3x3mm_P0.5mm_EP1.68x1.68mm_ThermalVias; Datasheet: http://www.ti.com/cn/lit/ds/symlink/bq24230.pdf; Description_: USB-Friendly Lithium-Ion Battery Charger And Power-Path Management IC, VQFN-16; ki_keywords: Lithium-ion battery charger
pins: 1 TS, 2 BAT, 3 BAT, 4 CE, 5 EN2, 6 EN1, 7 PGOOD, 8 VSS, 9 CHG, 10 OUT, 11 OUT, 12 ILIM, 13 IN, 14 TMR, 15 TD, 16 ISET, 17 VSS

## BTN8982TA
designator *  value BTN8982TA  Reference: Q
High Current PN Half Bridge, TO-263-7; ki_keywords: half bridge for motor drive applications; ki_fp_filters: TO*263*TabPin8*; Footprint: Package_TO_SOT_SMD:TO-263-7_TabPin8; Datasheet: https://www.infineon.com/dgdl/Infineon-BTN8982TA-DS-v01_00-EN.pdf?fileId=db3a30433fa9412f013fbe32289b7c17; Description_: High Current PN Half Bridge, TO-263-7
pins: 1, 2 IN, 3 INH, 4, 5 SR, 6 IS, 7, 8
text: Ctrl

## BTS40K2-1EJC
designator U?  value BTS40K2-1EJC  Reference: U
Smart High-Side Power Switch, PROFET, Single, 200mOhm, 1.5A, 36V, DSO-8; ki_keywords: infineon power switch; ki_fp_filters: Infineon*PG*DSO*43*; Footprint: Package_SO:Infineon_PG-DSO-8-43; Datasheet: http://www.infineon.com/dgdl/Infineon-BTS40K2-1EJC-DS-v01_00-EN.pdf?fileId=5546d462518ffd85015254ee4e601f99; Description_: Smart High-Side Power Switch, PROFET, Single, 200mOhm, 1.5A, 36V, DSO-8
pins: 1 GND, 2 IN, 3 DEN, 4 IS, 5 NC, 6 OUT, 7 OUT, 8 OUT, 9 VS

## BTS443P
designator *  value BTS443P  Reference: U
Smart High-Side Power Switch, PROFET, Single, 16mOhm, 7.6A, 36V, TO252-5; ki_keywords: infineon power switch; ki_fp_filters: TO*252*; Footprint: Package_TO_SOT_SMD:TO-252-4; Datasheet: http://www.infineon.com/dgdl/Infineon-BTS443P-DS-v01_00-EN.pdf?fileId=5546d4625a888733015aa9afbc5035d5; Description_: Smart High-Side Power Switch, PROFET, Single, 16mOhm, 7.6A, 36V, TO252-5
pins: 1 OUT, 2 IN, 3 Vbb, 4 IS, 5 OUT

## BTS462TATMA1
designator U?  value BTS462TATMA1  Reference: U
Smart High-Side Power Switch, PROFET, Single, 100mOhm, 3.5A, 34V, TO-252-4; ki_keywords: infineon power load switch; ki_fp_filters: TO?252*; Footprint: Package_TO_SOT_SMD:TO-252-4; Datasheet: https://www.infineon.com/dgdl/Infineon-BTS462T-DS-v01_01-EN.pdf?fileId=5546d4625a888733015aa9b0294035f6; Description_: Smart High-Side Power Switch, PROFET, Single, 100mOhm, 3.5A, 34V, TO-252-4
pins: 1 GND, 2 IN, 3 Vbb, 4 NC, 5 OUT

## BTS711L1
designator *  value BTS711L1  Reference: U
Smart High-Side Power Switch, PROFET, 4 Channel, RON 200mOhm, IL(NOM) 1.9A, Vbb 5.0...34V, standby current 28 µA (Tj = 25°C), SOIC-20; ki_keywords: High_Side_Switch ESD CMOS; ki_fp_filters: *SO*7.6*12.*P1.27mm*; Footprint: Package_SO:Infineon_SOIC-20W_7.6x12.8mm_P1.27mm; Datasheet: https://www.infineon.com/dgdl/Infineon-BTS711L1-DS-v01_03-EN.pdf?fileId=5546d4625a888733015aa3bea285100c; Description_: Smart High-Side Power Switch, PROFET, 4 Channel, RON 200mOhm, IL(NOM) 1.9A, Vbb 5.0...34V, standby current 28 µA (Tj = 25°C), SOIC-20
pins: 1 VBB, 2 GND1/2, 3 IN1, 4 ST1/2, 5 IN2, 6 GND3/4, 7 IN3, 8 ST3/4, 9 IN4, 10 VBB, 11 VBB, 12 VBB, 13 OUT4, 14 OUT3, 15 VBB, 16 VBB, 17 OUT2, 18 OUT1, 19 VBB, 20 VBB

## BTS712N1
designator *  value BTS712N1  Reference: U
Smart High-Side Power Switch, PROFET, 4 Channel, RON 200mOhm, IL(NOM) 1.9A, Vbb 5.0...34V, standby current 180 µA (Tj = 25°C), SOIC-20; ki_keywords: High_Side_Switch ESD CMOS; ki_fp_filters: *SO*7.6*12.*P1.27mm*; Footprint: Package_SO:Infineon_SOIC-20W_7.6x12.8mm_P1.27mm; Datasheet: https://www.infineon.com/dgdl/Infineon-BTS712N1-DS-v01_03-EN.pdf?fileId=5546d4625a888733015aa3be77471000; Description_: Smart High-Side Power Switch, PROFET, 4 Channel, RON 200mOhm, IL(NOM) 1.9A, Vbb 5.0...34V, standby current 180 µA (Tj = 25°C), SOIC-20
pins: 1 VBB, 2 GND1/2, 3 IN1, 4 ST1/2, 5 IN2, 6 GND3/4, 7 IN3, 8 ST3/4, 9 IN4, 10 VBB, 11 VBB, 12 VBB, 13 OUT4, 14 OUT3, 15 VBB, 16 VBB, 17 OUT2, 18 OUT1, 19 VBB, 20 VBB

## BTS716G
designator *  value BTS716G  Reference: U
Smart High-Side Power Switch, PROFET, 4 Channel, RON 140mOhm, IL(NOM) 2.6A, Vbb 5.5...40V, standby current 9 µA (Tj = -40...25°C), undervoltage switch off 4.5V, SOIC-20; ki_keywords: High_Side_Switch ESD CMOS; ki_fp_filters: *SO*7.6*12.*P1.27mm*; Footprint: Package_SO:Infineon_SOIC-20W_7.6x12.8mm_P1.27mm; Datasheet: https://www.infineon.com/dgdl/Infineon-BTS716G-DS-v01_00-EN.pdf?fileId=5546d4625a888733015aa3be86601004; Description_: Smart High-Side Power Switch, PROFET, 4 Channel, RON 140mOhm, IL(NOM) 2.6A, Vbb 5.5...40V, standby current 9 µA (Tj = -40...25°C), undervoltage switch off 4.5V, SOIC-20
pins: 1 VBB, 2 GND1/2, 3 IN1, 4 ST1/2, 5 IN2, 6 GND3/4, 7 IN3, 8 ST3/4, 9 IN4, 10 VBB, 11 VBB, 12 VBB, 13 OUT4, 14 OUT3, 15 VBB, 16 VBB, 17 OUT2, 18 OUT1, 19 VBB, 20 VBB

## BTS716GB
designator *  value BTS716GB  Reference: U
Smart High-Side Power Switch, PROFET, 4 Channel, RON 140mOhm, IL(NOM) 2.6A, Vbb 5.5...40V, standby current 9 µA (Tj = -40...25°C), undervoltage switch off 3.2V, SOIC-20; ki_keywords: High_Side_Switch ESD CMOS; ki_fp_filters: *SO*7.6*12.*P1.27mm*; Footprint: Package_SO:Infineon_SOIC-20W_7.6x12.8mm_P1.27mm; Datasheet: https://www.infineon.com/dgdl/Infineon-BTS716GB-DS-v01_00-EN.pdf?fileId=5546d4625a888733015aa3be94e21008; Description_: Smart High-Side Power Switch, PROFET, 4 Channel, RON 140mOhm, IL(NOM) 2.6A, Vbb 5.5...40V, standby current 9 µA (Tj = -40...25°C), undervoltage switch off 3.2V, SOIC-20
pins: 1 VBB, 2 GND1/2, 3 IN1, 4 ST1/2, 5 IN2, 6 GND3/4, 7 IN3, 8 ST3/4, 9 IN4, 10 VBB, 11 VBB, 12 VBB, 13 OUT4, 14 OUT3, 15 VBB, 16 VBB, 17 OUT2, 18 OUT1, 19 VBB, 20 VBB

## BTS721L1
designator *  value BTS721L1  Reference: U
Smart High-Side Power Switch, PROFET, 4 Channel, RON 100mOhm, IL(NOM) 2.9A, Vbb 5.0...34V, standby current 28 µA (Tj = 25°C), SOIC-20; ki_keywords: High_Side_Switch ESD CMOS; ki_fp_filters: *SO*7.6*12.*P1.27mm*; Footprint: Package_SO:Infineon_SOIC-20W_7.6x12.8mm_P1.27mm; Datasheet: https://www.infineon.com/dgdl/Infineon-BTS721L1-DS-v01_03-EN.pdf?fileId=5546d4625a888733015aa3ac546f0ff9; Description_: Smart High-Side Power Switch, PROFET, 4 Channel, RON 100mOhm, IL(NOM) 2.9A, Vbb 5.0...34V, standby current 28 µA (Tj = 25°C), SOIC-20
pins: 1 VBB, 2 GND1/2, 3 IN1, 4 ST1/2, 5 IN2, 6 GND3/4, 7 IN3, 8 ST3/4, 9 IN4, 10 VBB, 11 VBB, 12 VBB, 13 OUT4, 14 OUT3, 15 VBB, 16 VBB, 17 OUT2, 18 OUT1, 19 VBB, 20 VBB

## BTS724G
designator *  value BTS724G  Reference: U
Smart High-Side Power Switch, PROFET, 4 Channel, RON 90mOhm, IL(NOM) 3.3A, Vbb 5.5...40V, standby current 9 µA (Tj = -40...25°C), SOIC-20; ki_keywords: High_Side_Switch ESD CMOS; ki_fp_filters: *SO*7.6*12.*P1.27mm*; Footprint: Package_SO:Infineon_SOIC-20W_7.6x12.8mm_P1.27mm; Datasheet: https://www.infineon.com/dgdl/Infineon-BTS724G-DS-v01_00-EN.pdf?fileId=5546d4625a888733015aa3a2f1030ff1; Description_: Smart High-Side Power Switch, PROFET, 4 Channel, RON 90mOhm, IL(NOM) 3.3A, Vbb 5.5...40V, standby current 9 µA (Tj = -40...25°C), SOIC-20
pins: 1 VBB, 2 GND1/2, 3 IN1, 4 ST1/2, 5 IN2, 6 GND3/4, 7 IN3, 8 ST3/4, 9 IN4, 10 VBB, 11 VBB, 12 VBB, 13 OUT4, 14 OUT3, 15 VBB, 16 VBB, 17 OUT2, 18 OUT1, 19 VBB, 20 VBB

## BTS5012SDA
designator *  value BTS5012SDA  Reference: U
Smart High-Side Power Switch, PROFET, Single, 24mOhm, 6.5A, 20V, TO252-5; ki_keywords: infineon power switch; ki_fp_filters: TO*252*; Footprint: Package_TO_SOT_SMD:TO-252-4; Datasheet: http://www.infineon.com/dgdl/Infineon-BTS5012SDA-DS-v01_01-en.pdf?fileId=db3a30431d8a6b3c011db95c6eba237d; Description_: Smart High-Side Power Switch, PROFET, Single, 24mOhm, 6.5A, 20V, TO252-5
pins: 1 OUT, 2 IN, 3 Vbb, 4 IS, 5 OUT

## BTS5014SDA
designator *  value BTS5014SDA  Reference: U
Smart High-Side Power Switch, PROFET, Single, 28mOhm, 6A, 20V, TO252-5; ki_keywords: infineon power switch; ki_fp_filters: TO*252*; Footprint: Package_TO_SOT_SMD:TO-252-4; Datasheet: http://www.infineon.com/dgdl/Infineon-BTS5014SDA-DS-v01_01-EN.pdf?fileId=5546d4625a888733015aa42c708e1142; Description_: Smart High-Side Power Switch, PROFET, Single, 28mOhm, 6A, 20V, TO252-5
pins: 1 OUT, 2 IN, 3 Vbb, 4 IS, 5 OUT

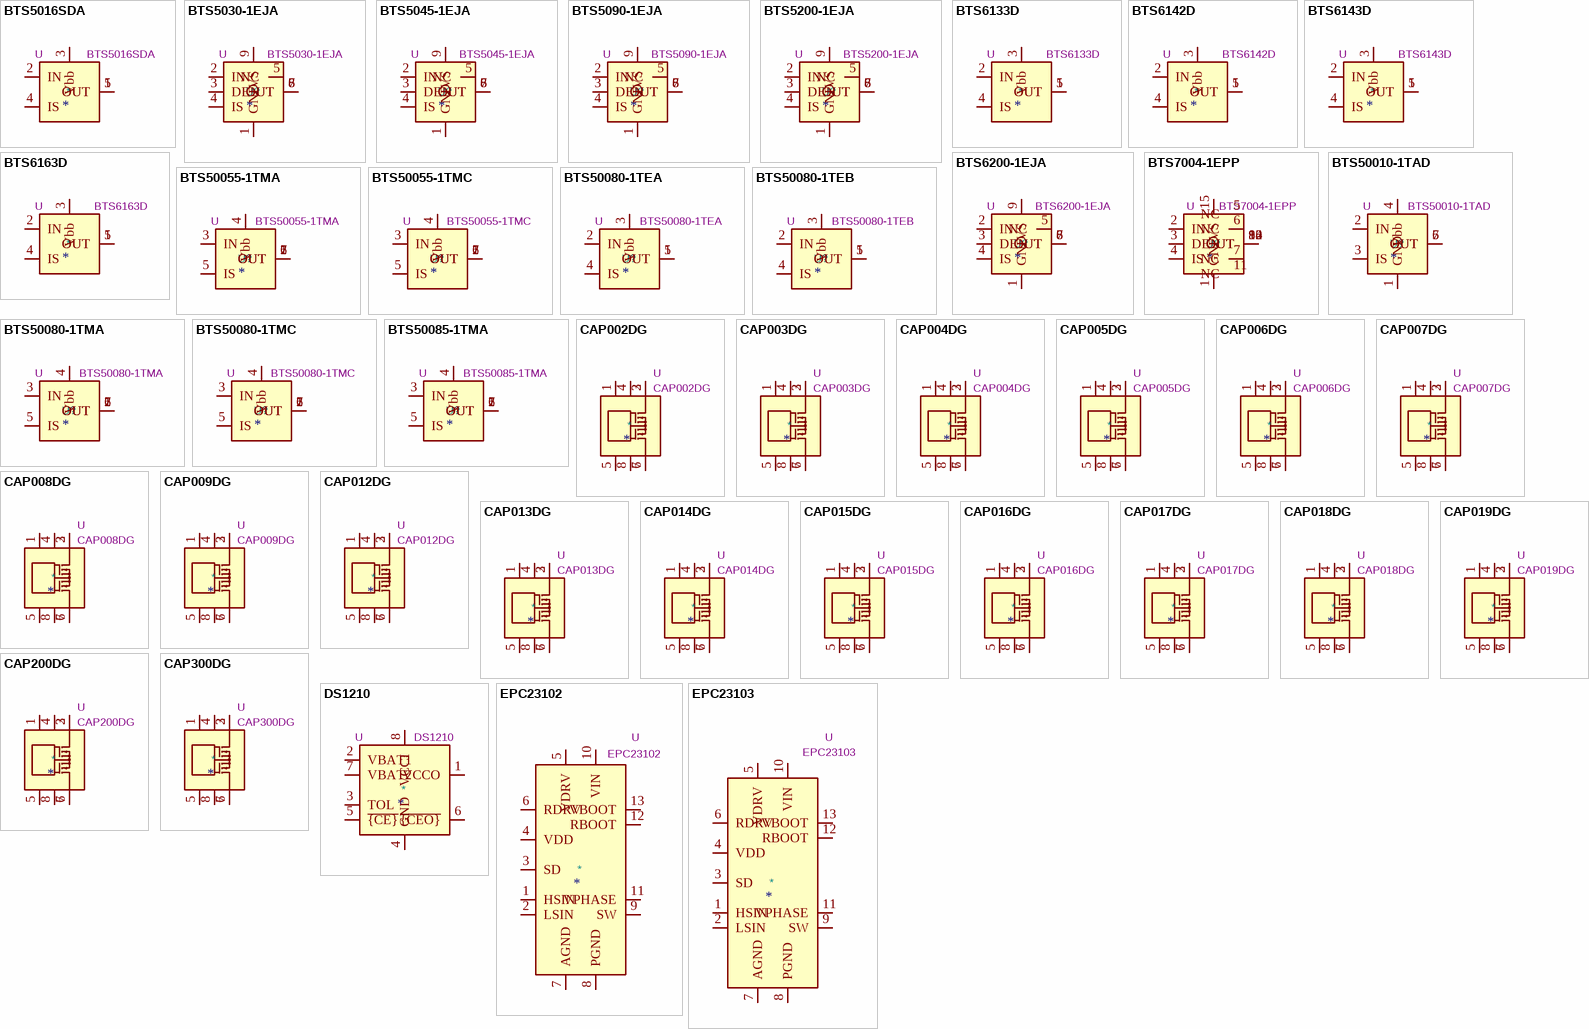
[diagram p2: symbols BTS5016SDA to EPC23103]

## BTS5016SDA
designator *  value BTS5016SDA  Reference: U
Smart High-Side Power Switch, PROFET, Single, 32mOhm, 5.5A, 20V, TO252-5; ki_keywords: infineon power switch; ki_fp_filters: TO*252*; Footprint: Package_TO_SOT_SMD:TO-252-4; Datasheet: http://www.infineon.com/dgdl/Infineon-BTS5016SDA-DS-v01_01-EN.pdf?fileId=5546d4625a888733015aa41a6c38112d; Description_: Smart High-Side Power Switch, PROFET, Single, 32mOhm, 5.5A, 20V, TO252-5
pins: 1 OUT, 2 IN, 3 Vbb, 4 IS, 5 OUT

## BTS5030-1EJA
designator U?  value BTS5030-1EJA  Reference: U
Smart High-Side Power Switch, PROFET, Single, 30mOhm, 5A, 28V, DSO-8; ki_keywords: infineon power switch; ki_fp_filters: Infineon*PG*DSO*43*; Footprint: Package_SO:Infineon_PG-DSO-8-43; Datasheet: http://www.infineon.com/dgdl/Infineon-BTS5030-1EJA-DS-v02_20-EN.pdf?fileId=5546d46259d9a4bf015a84f3e686758a; Description_: Smart High-Side Power Switch, PROFET, Single, 30mOhm, 5A, 28V, DSO-8
pins: 1 GND, 2 IN, 3 DEN, 4 IS, 5 NC, 6 OUT, 7 OUT, 8 OUT, 9 VS

## BTS5045-1EJA
designator U?  value BTS5045-1EJA  Reference: U
Smart High-Side Power Switch, PROFET, Single, 45mOhm, 4A, 28V, DSO-8; ki_keywords: infineon power switch; ki_fp_filters: Infineon*PG*DSO*43*; Footprint: Package_SO:Infineon_PG-DSO-8-43; Datasheet: http://www.infineon.com/dgdl/Infineon-BTS5045-1EJA-DS-v02_02-EN.pdf?fileId=5546d4625a888733015aa411125b1069; Description_: Smart High-Side Power Switch, PROFET, Single, 45mOhm, 4A, 28V, DSO-8
pins: 1 GND, 2 IN, 3 DEN, 4 IS, 5 NC, 6 OUT, 7 OUT, 8 OUT, 9 VS

## BTS5090-1EJA
designator U?  value BTS5090-1EJA  Reference: U
Smart High-Side Power Switch, PROFET, Single, 90mOhm, 3A, 28V, DSO-8; ki_keywords: infineon power switch; ki_fp_filters: Infineon*PG*DSO*43*; Footprint: Package_SO:Infineon_PG-DSO-8-43; Datasheet: http://www.infineon.com/dgdl/Infineon-BTS5090-1EJA-DS-v02_02-EN.pdf?fileId=5546d4625a888733015aa410fc371059; Description_: Smart High-Side Power Switch, PROFET, Single, 90mOhm, 3A, 28V, DSO-8
pins: 1 GND, 2 IN, 3 DEN, 4 IS, 5 NC, 6 OUT, 7 OUT, 8 OUT, 9 VS

## BTS5200-1EJA
designator U?  value BTS5200-1EJA  Reference: U
Smart High-Side Power Switch, PROFET, Single, 200mOhm, 1.5A, 28V, DSO-8; ki_keywords: infineon power switch; ki_fp_filters: Infineon*PG*DSO*43*; Footprint: Package_SO:Infineon_PG-DSO-8-43; Datasheet: http://www.infineon.com/dgdl/Infineon-BTS5200-1EJA-DS-v01_00-EN.pdf?fileId=5546d46250cc1fdf0151636cd945402e; Description_: Smart High-Side Power Switch, PROFET, Single, 200mOhm, 1.5A, 28V, DSO-8
pins: 1 GND, 2 IN, 3 DEN, 4 IS, 5 NC, 6 OUT, 7 OUT, 8 OUT, 9 VS

## BTS6133D
designator *  value BTS6133D  Reference: U
Smart High-Side Power Switch, PROFET, Single, 10mOhm, 8A, 38V, TO-252-5; ki_keywords: infineon power switch; ki_fp_filters: TO*252*; Footprint: Package_TO_SOT_SMD:TO-252-4; Datasheet: http://www.infineon.com/dgdl/Infineon-BTS6133D-DS-v01_00-EN.pdf?fileId=5546d4625a888733015aa3e3286f102a; Description_: Smart High-Side Power Switch, PROFET, Single, 10mOhm, 8A, 38V, TO-252-5
pins: 1 OUT, 2 IN, 3 Vbb, 4 IS, 5 OUT

## BTS6142D
designator *  value BTS6142D  Reference: U
Smart High-Side Power Switch, PROFET, Single, 12mOhm, 7A, 24V, TO252-5; ki_keywords: infineon power switch; ki_fp_filters: TO*252*; Footprint: Package_TO_SOT_SMD:TO-252-4; Datasheet: http://www.infineon.com/dgdl/Infineon-BTS6142D-DS-v01_01-EN.pdf?fileId=5546d4625a888733015aa3da1e0e1026; Description_: Smart High-Side Power Switch, PROFET, Single, 12mOhm, 7A, 24V, TO252-5
pins: 1 OUT, 2 IN, 3 Vbb, 4 IS, 5 OUT

## BTS6143D
designator *  value BTS6143D  Reference: U
Smart High-Side Power Switch, PROFET, Single, 10mOhm, 8A, 38V, TO252-5; ki_keywords: infineon power switch; ki_fp_filters: TO*252*; Footprint: Package_TO_SOT_SMD:TO-252-4; Datasheet: http://www.infineon.com/dgdl/Infineon-BTS6143D-DS-v01_00-EN.pdf?fileId=5546d4625a888733015aa3da10821022; Description_: Smart High-Side Power Switch, PROFET, Single, 10mOhm, 8A, 38V, TO252-5
pins: 1 OUT, 2 IN, 3 Vbb, 4 IS, 5 OUT

## BTS6163D
designator *  value BTS6163D  Reference: U
Smart High-Side Power Switch, PROFET, Single, 20mOhm, 5.5A, 62V, TO252-5; ki_keywords: infineon power switch; ki_fp_filters: TO*252*; Footprint: Package_TO_SOT_SMD:TO-252-4; Datasheet: http://www.infineon.com/dgdl/Infineon-BTS6163D-DS-v01_00-EN.pdf?fileId=5546d4625a888733015aa3da01a1101e; Description_: Smart High-Side Power Switch, PROFET, Single, 20mOhm, 5.5A, 62V, TO252-5
pins: 1 OUT, 2 IN, 3 Vbb, 4 IS, 5 OUT

## BTS6200-1EJA
designator U?  value BTS6200-1EJA  Reference: U
Smart High-Side Power Switch, PROFET, Single, 200mOhm, 1.5A, 36V, DSO-8; ki_keywords: infineon power switch; ki_fp_filters: Infineon*PG*DSO*43*; Footprint: Package_SO:Infineon_PG-DSO-8-43; Datasheet: http://www.infineon.com/dgdl/Infineon-BTT6200-1EJA-DS-v01_00-EN.pdf?fileId=5546d4625a888733015aa3756ec20fcc; Description_: Smart High-Side Power Switch, PROFET, Single, 200mOhm, 1.5A, 36V, DSO-8
pins: 1 GND, 2 IN, 3 DEN, 4 IS, 5 NC, 6 OUT, 7 OUT, 8 OUT, 9 VS

## BTS7004-1EPP
designator U?  value BTS7004-1EPP  Reference: U
Smart High-Side Power Switch, PROFET, One Channel, 12V, 15A, Rds(on) 4.4mΩ, PG-TSDSO-14-22; ki_keywords: BTS7004; ki_fp_filters: Infineon*TSDSO*22*; Footprint: Package_SO:Infineon_PG-TSDSO-14-22; Datasheet: https://www.infineon.com/dgdl/Infineon-BTS7004-1EPP-DS-v01_00-EN.pdf?fileId=5546d4626102d35a016147550a725555; Description_: Smart High-Side Power Switch, PROFET, One Channel, 12V, 15A, Rds(on) 4.4mΩ, PG-TSDSO-14-22
pins: 1 GND, 2 IN, 3 DEN, 4 IS, 5 NC, 6 NC, 7 NC, 8 OUT, 9 OUT, 10 OUT, 11 NC, 12 OUT, 13 OUT, 14 OUT, 15 VS

## BTS50010-1TAD
designator U?  value BTS50010-1TAD  Reference: U
Smart High-Side Power Switch, PROFET, Single, 1mOhm, 40A, 18V, TO-263-7; ki_keywords: BTS50010 PROFET; ki_fp_filters: TO*263*TabPin4*; Footprint: Package_TO_SOT_SMD:TO-263-7_TabPin4; Datasheet: https://www.infineon.com/dgdl/Infineon-BTS50010-1TAD-DS-v01_00-EN.pdf?fileId=5546d462576f34750157c38810ca55cd; Description_: Smart High-Side Power Switch, PROFET, Single, 1mOhm, 40A, 18V, TO-263-7
pins: 1 GND, 2 IN, 3 IS, 4 Vbb, 5 OUT, 6 OUT, 7 OUT

## BTS50055-1TMA
designator U?  value BTS50055-1TMA  Reference: U
Smart High-Side Power Switch, PROFET, Single, 6mOhm, 70A, 34V, TO220-7; ki_keywords: BTS50055 PROFET; ki_fp_filters: TO*263*TabPin4*; Footprint: Package_TO_SOT_SMD:TO-263-7_TabPin4; Datasheet: http://www.infineon.com/dgdl/Infineon-BTS50055-1TMA-DS-v01_00-EN.pdf?fileId=5546d4625a888733015aa9b00de935ed; Description_: Smart High-Side Power Switch, PROFET, Single, 6mOhm, 70A, 34V, TO220-7
pins: 1 OUT, 2 OUT, 3 IN, 4 Vbb, 5 IS, 6 OUT, 7 OUT

## BTS50055-1TMC
designator U?  value BTS50055-1TMC  Reference: U
Smart High-Side Power Switch, PROFET, Single, 6mOhm, 17A, 34V, TO220-7; ki_keywords: BTS50055 PROFET; ki_fp_filters: TO*263*TabPin4*; Footprint: Package_TO_SOT_SMD:TO-263-7_TabPin4; Datasheet: https://www.infineon.com/dgdl/Infineon-BTS50055-1TMC-DS-v01_00-EN.pdf?fileId=5546d4625a888733015aa9b0007235e9; Description_: Smart High-Side Power Switch, PROFET, Single, 6mOhm, 17A, 34V, TO220-7
pins: 1 OUT, 2 OUT, 3 IN, 4 Vbb, 5 IS, 6 OUT, 7 OUT

## BTS50080-1TEA
designator U?  value BTS50080-1TEA  Reference: U
Smart High-Side Power Switch, PROFET, Single, 16mOhm, 10A, 30V, TO252-5; ki_keywords: infineon power switch; ki_fp_filters: TO*252*; Footprint: Package_TO_SOT_SMD:TO-252-4; Datasheet: http://www.infineon.com/dgdl/Infineon-BTS50080-1TEA-DS-v01_00-EN.pdf?fileId=5546d4625a888733015aa435f2d2115b; Description_: Smart High-Side Power Switch, PROFET, Single, 16mOhm, 10A, 30V, TO252-5
pins: 1 OUT, 2 IN, 3 Vbb, 4 IS, 5 OUT

## BTS50080-1TEB
designator U?  value BTS50080-1TEB  Reference: U
Smart High-Side Power Switch, PROFET, Single, 16mOhm, 10A, 30V, TO252-5; ki_keywords: infineon power switch; ki_fp_filters: TO*252*; Footprint: Package_TO_SOT_SMD:TO-252-4; Datasheet: https://www.infineon.com/dgdl/Infineon-BTS50080-1TEB-DS-v01_00-EN.pdf?fileId=5546d4625a888733015aa435e5601157; Description_: Smart High-Side Power Switch, PROFET, Single, 16mOhm, 10A, 30V, TO252-5
pins: 1 OUT, 2 IN, 3 Vbb, 4 IS, 5 OUT

## BTS50080-1TMA
designator U?  value BTS50080-1TMA  Reference: U
Smart High-Side Power Switch, PROFET, Single, 16mOhm, 9.5A, 38V, TO220-7; ki_keywords: BTS50080 PROFET; ki_fp_filters: TO*263*TabPin4*; Footprint: Package_TO_SOT_SMD:TO-263-7_TabPin4; Datasheet: https://www.infineon.com/dgdl/Infineon-BTS50080-1TMA-DS-v01_00-EN.pdf?fileId=5546d4625a888733015aa435d7fe1153; Description_: Smart High-Side Power Switch, PROFET, Single, 16mOhm, 9.5A, 38V, TO220-7
pins: 1 OUT, 2 OUT, 3 IN, 4 Vbb, 5 IS, 6 OUT, 7 OUT

## BTS50080-1TMC
designator U?  value BTS50080-1TMC  Reference: U
Smart High-Side Power Switch, PROFET, Single, 16mOhm, 9.5A, 38V, TO220-7; ki_keywords: BTS50080 PROFET; ki_fp_filters: TO*263*TabPin4*; Footprint: Package_TO_SOT_SMD:TO-263-7_TabPin4; Datasheet: https://www.infineon.com/dgdl/Infineon-BTS50080_1TMC-DS-v01_00-en.pdf?fileId=db3a3043266237920126992737c951ee; Description_: Smart High-Side Power Switch, PROFET, Single, 16mOhm, 9.5A, 38V, TO220-7
pins: 1 OUT, 2 OUT, 3 IN, 4 Vbb, 5 IS, 6 OUT, 7 OUT

## BTS50085-1TMA
designator U?  value BTS50085-1TMA  Reference: U
Smart High-Side Power Switch, PROFET, Single, 9mOhm, 11.1A, 58V, TO220-7; ki_keywords: BTS50085 PROFET; ki_fp_filters: TO*263*TabPin4*; Footprint: Package_TO_SOT_SMD:TO-263-7_TabPin4; Datasheet: https://www.infineon.com/dgdl/Infineon-BTS50085-1TMA-DS-v01_00-EN.pdf?fileId=5546d4625a888733015aa435bccd114b; Description_: Smart High-Side Power Switch, PROFET, Single, 9mOhm, 11.1A, 58V, TO220-7
pins: 1 OUT, 2 OUT, 3 IN, 4 Vbb, 5 IS, 6 OUT, 7 OUT

## CAP002DG
designator *  value CAP002DG  Reference: U
CapZero Automatic Capacitor Discarger, 825V, <=500nF, 1.5MOhm, SOIC-8; ki_fp_filters: SOIC*3.9x4.9mm*P1.27mm*; Footprint: Package_SO:SOIC-8_3.9x4.9mm_P1.27mm; Datasheet: https://ac-dc.power.com/sites/default/files/product-docs/capzero_family_datasheet.pdf; Description_: CapZero Automatic Capacitor Discarger, 825V, <=500nF, 1.5MOhm, SOIC-8; ki_keywords: Automatic Capacitor Discarger
pins: 1, 2, 3, 4, 5, 6, 7, 8

## CAP003DG
designator *  value CAP003DG  Reference: U
CapZero Automatic Capacitor Discarger, 825V, <=750nF, 1.02MOhm, SOIC-8; ki_fp_filters: SOIC*3.9x4.9mm*P1.27mm*; Footprint: Package_SO:SOIC-8_3.9x4.9mm_P1.27mm; Datasheet: https://ac-dc.power.com/sites/default/files/product-docs/capzero_family_datasheet.pdf; Description_: CapZero Automatic Capacitor Discarger, 825V, <=750nF, 1.02MOhm, SOIC-8; ki_keywords: Automatic Capacitor Discarger
pins: 1, 2, 3, 4, 5, 6, 7, 8

## CAP004DG
designator *  value CAP004DG  Reference: U
CapZero Automatic Capacitor Discarger, 825V, <=1uF, 780kOhm, SOIC-8; ki_fp_filters: SOIC*3.9x4.9mm*P1.27mm*; Footprint: Package_SO:SOIC-8_3.9x4.9mm_P1.27mm; Datasheet: https://ac-dc.power.com/sites/default/files/product-docs/capzero_family_datasheet.pdf; Description_: CapZero Automatic Capacitor Discarger, 825V, <=1uF, 780kOhm, SOIC-8; ki_keywords: Automatic Capacitor Discarger
pins: 1, 2, 3, 4, 5, 6, 7, 8

## CAP005DG
designator *  value CAP005DG  Reference: U
CapZero Automatic Capacitor Discarger, 825V, <=1.5uF, 480kOhm, SOIC-8; ki_fp_filters: SOIC*3.9x4.9mm*P1.27mm*; Footprint: Package_SO:SOIC-8_3.9x4.9mm_P1.27mm; Datasheet: https://ac-dc.power.com/sites/default/files/product-docs/capzero_family_datasheet.pdf; Description_: CapZero Automatic Capacitor Discarger, 825V, <=1.5uF, 480kOhm, SOIC-8; ki_keywords: Automatic Capacitor Discarger
pins: 1, 2, 3, 4, 5, 6, 7, 8

## CAP006DG
designator *  value CAP006DG  Reference: U
CapZero Automatic Capacitor Discarger, 825V, <=2uF, 360kOhm, SOIC-8; ki_fp_filters: SOIC*3.9x4.9mm*P1.27mm*; Footprint: Package_SO:SOIC-8_3.9x4.9mm_P1.27mm; Datasheet: https://ac-dc.power.com/sites/default/files/product-docs/capzero_family_datasheet.pdf; Description_: CapZero Automatic Capacitor Discarger, 825V, <=2uF, 360kOhm, SOIC-8; ki_keywords: Automatic Capacitor Discarger
pins: 1, 2, 3, 4, 5, 6, 7, 8

## CAP007DG
designator *  value CAP007DG  Reference: U
CapZero Automatic Capacitor Discarger, 825V, <=2.5uF, 300kOhm, SOIC-8; ki_fp_filters: SOIC*3.9x4.9mm*P1.27mm*; Footprint: Package_SO:SOIC-8_3.9x4.9mm_P1.27mm; Datasheet: https://ac-dc.power.com/sites/default/files/product-docs/capzero_family_datasheet.pdf; Description_: CapZero Automatic Capacitor Discarger, 825V, <=2.5uF, 300kOhm, SOIC-8; ki_keywords: Automatic Capacitor Discarger
pins: 1, 2, 3, 4, 5, 6, 7, 8

## CAP008DG
designator *  value CAP008DG  Reference: U
CapZero Automatic Capacitor Discarger, 825V, <=3.5uF, 200kOhm, SOIC-8; ki_keywords: Automatic Capacitor Discarger 825V; ki_fp_filters: SOIC*3.9x4.9mm*P1.27mm*; Footprint: Package_SO:SOIC-8_3.9x4.9mm_P1.27mm; Datasheet: https://ac-dc.power.com/sites/default/files/product-docs/capzero_family_datasheet.pdf; Description_: CapZero Automatic Capacitor Discarger, 825V, <=3.5uF, 200kOhm, SOIC-8
pins: 1, 2, 3, 4, 5, 6, 7, 8

## CAP009DG
designator *  value CAP009DG  Reference: U
CapZero Automatic Capacitor Discarger, 825V, <=5uF, 150kOhm, SOIC-8; ki_fp_filters: SOIC*3.9x4.9mm*P1.27mm*; Footprint: Package_SO:SOIC-8_3.9x4.9mm_P1.27mm; Datasheet: https://ac-dc.power.com/sites/default/files/product-docs/capzero_family_datasheet.pdf; Description_: CapZero Automatic Capacitor Discarger, 825V, <=5uF, 150kOhm, SOIC-8; ki_keywords: Automatic Capacitor Discarger
pins: 1, 2, 3, 4, 5, 6, 7, 8

## CAP012DG
designator *  value CAP012DG  Reference: U
CapZero Automatic Capacitor Discarger, 1000V, <=500nF, 1.5MOhm, SOIC-8; ki_fp_filters: SOIC*3.9x4.9mm*P1.27mm*; Footprint: Package_SO:SOIC-8_3.9x4.9mm_P1.27mm; Datasheet: https://ac-dc.power.com/sites/default/files/product-docs/capzero_family_datasheet.pdf; Description_: CapZero Automatic Capacitor Discarger, 1000V, <=500nF, 1.5MOhm, SOIC-8; ki_keywords: Automatic Capacitor Discarger
pins: 1, 2, 3, 4, 5, 6, 7, 8

## CAP013DG
designator *  value CAP013DG  Reference: U
CapZero Automatic Capacitor Discarger, 1000V, <=750nF, 1.02MOhm, SOIC-8; ki_fp_filters: SOIC*3.9x4.9mm*P1.27mm*; Footprint: Package_SO:SOIC-8_3.9x4.9mm_P1.27mm; Datasheet: https://ac-dc.power.com/sites/default/files/product-docs/capzero_family_datasheet.pdf; Description_: CapZero Automatic Capacitor Discarger, 1000V, <=750nF, 1.02MOhm, SOIC-8; ki_keywords: Automatic Capacitor Discarger
pins: 1, 2, 3, 4, 5, 6, 7, 8

## CAP014DG
designator *  value CAP014DG  Reference: U
CapZero Automatic Capacitor Discarger, 1000V, <=1uF, 780kOhm, SOIC-8; ki_fp_filters: SOIC*3.9x4.9mm*P1.27mm*; Footprint: Package_SO:SOIC-8_3.9x4.9mm_P1.27mm; Datasheet: https://ac-dc.power.com/sites/default/files/product-docs/capzero_family_datasheet.pdf; Description_: CapZero Automatic Capacitor Discarger, 1000V, <=1uF, 780kOhm, SOIC-8; ki_keywords: Automatic Capacitor Discarger
pins: 1, 2, 3, 4, 5, 6, 7, 8

## CAP015DG
designator *  value CAP015DG  Reference: U
CapZero Automatic Capacitor Discarger, 1000V, <=1.5uF, 480kOhm, SOIC-8; ki_fp_filters: SOIC*3.9x4.9mm*P1.27mm*; Footprint: Package_SO:SOIC-8_3.9x4.9mm_P1.27mm; Datasheet: https://ac-dc.power.com/sites/default/files/product-docs/capzero_family_datasheet.pdf; Description_: CapZero Automatic Capacitor Discarger, 1000V, <=1.5uF, 480kOhm, SOIC-8; ki_keywords: Automatic Capacitor Discarger
pins: 1, 2, 3, 4, 5, 6, 7, 8